# EAGLE library part TINY24/44/84 (library atmega-atxmega)
• High Performance, Low Power AVR® 8-bit Microcontroller • Advanced RISC Architecture – 120 Powerful Instructions – Most Single Clock Cycle Execution – 32 x 8 General Purpose Working Registers – Fully Static Operation • High Endurance, Non-volatile Memory Segments – 2K/4K/8K Bytes of In-System, Self-programmable Flash Program Memory • Endurance: 10,000 Write/Erase Cycles – 128/256/512 Bytes of In-System Programmable EEPROM • Endurance: 100,000 Write/Erase Cycles – 128/256/512 Bytes of Internal SRAM – Data Retention: 20 years at 85°C / 100 years at 25°C – Programming Lock for Self-programming Flash & EEPROM Data Security • Peripheral Features – One 8-bit and One 16-bit Timer/Counter with Two PWM Channels, Each – 10-bit ADC • 8 Single-ended Channels • 12 Differential ADC Channel Pairs with Programmable Gain (1x / 20x) – Programmable Watchdog Timer with Separate On-chip Oscillator – On-chip Analog Comparator – Universal Serial Interface • Special Microcontroller Features – debugWIRE On-chip Debug System – In-System Programmable via SPI Port – Internal and External Interrupt Sources • Pin Change Interrupt on 12 Pins – Low Power Idle, ADC Noise Reduction, Standby and Power-down Modes – Enhanced Power-on Reset Circuit – Programmable Brown-out Detection Circuit with Software Disable Function – Internal Calibrated Oscillator – On-chip Temperature Sensor • I/O and Packages – Available in 20-pin QFN/MLF/VQFN, 14-pin SOIC, 14-pin PDIP and 15-ball UFBGA – Twelve Programmable I/O Lines • Operating Voltage: – 1.8 – 5.5V • Speed Grade: – 0 – 4 MHz @ 1.8 – 5.5V – 0 – 10 MHz @ 2.7 – 5.5V – 0 – 20 MHz @ 4.5 – 5.5V • Industrial Temperature Range: -40°C to +85°C • Low Power Consumption – Active Mode: • 210 μA at 1.8V and 1 MHz – Idle Mode: • 33 μA at 1.8V and 1 MHz – Power-down Mode: • 0.1 μA at 1.8V and 25°C
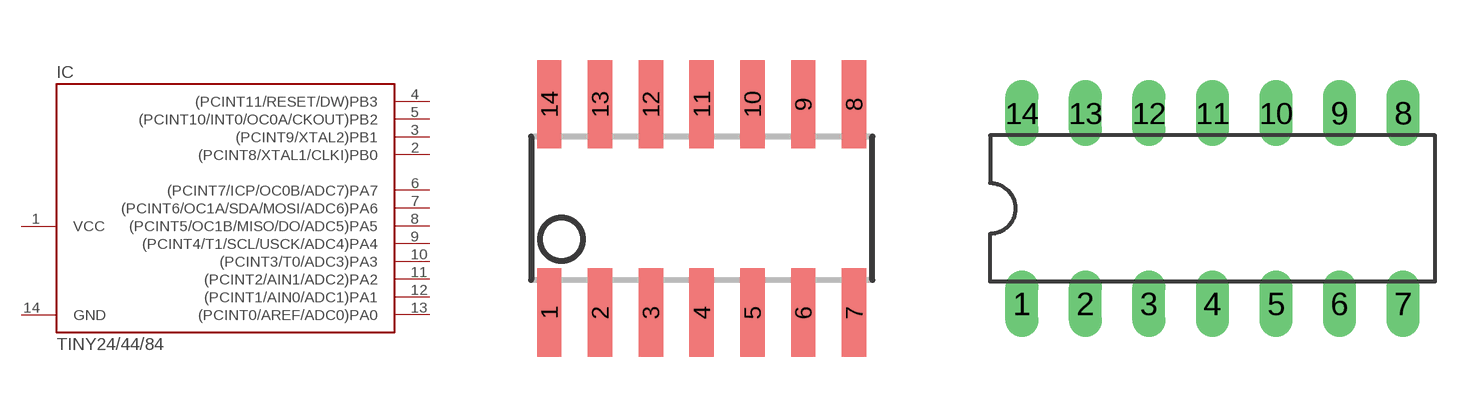
[diagram p144: symbol with the pads of SOIC14; footprints SOIC14, DIL14]

Designator prefix IC

## TINY24/44/84-SSU  [SOIC14]
1  VCC  pwr
2  (PCINT8/XTAL1/CLKI)PB0
3  (PCINT9/XTAL2)PB1
4  (PCINT11/RESET/DW)PB3
5  (PCINT10/INT0/OC0A/CKOUT)PB2
6  (PCINT7/ICP/OC0B/ADC7)PA7
7  (PCINT6/OC1A/SDA/MOSI/ADC6)PA6
8  (PCINT5/OC1B/MISO/DO/ADC5)PA5
9  (PCINT4/T1/SCL/USCK/ADC4)PA4
10  (PCINT3/T0/ADC3)PA3
11  (PCINT2/AIN1/ADC2)PA2
12  (PCINT1/AIN0/ADC1)PA1
13  (PCINT0/AREF/ADC0)PA0
14  GND  pwr

## TINY24/44/84-PU  [DIL14]
Pads as for SOIC14

## TINY24/44/84-MU  [QFN/MLF20]
1  (PCINT4/T1/SCL/USCK/ADC4)PA4
2  (PCINT3/T0/ADC3)PA3
3  (PCINT2/AIN1/ADC2)PA2
4  (PCINT1/AIN0/ADC1)PA1
5  (PCINT0/AREF/ADC0)PA0
8  GND  pwr
9  VCC  pwr
11  (PCINT8/XTAL1/CLKI)PB0
12  (PCINT9/XTAL2)PB1
13  (PCINT11/RESET/DW)PB3
14  (PCINT10/INT0/OC0A/CKOUT)PB2
15  (PCINT7/ICP/OC0B/ADC7)PA7
16  (PCINT6/OC1A/SDA/MOSI/ADC6)PA6
20  (PCINT5/OC1B/MISO/DO/ADC5)PA5

## Footprint SOIC14 (pad centres in mm)
Small Outline Package
smd 0.61 x 2.21: 1 -3.81,-2.603; 2 -2.54,-2.603; 3 -1.27,-2.603; 4 0,-2.603; 5 1.27,-2.603; 6 2.54,-2.603; 7 3.81,-2.603; 8 3.81,2.603; 9 2.54,2.603; 10 1.27,2.603; 11 0,2.603; 12 -1.27,2.603; 13 -2.54,2.603; 14 -3.81,2.603

## Footprint DIL14 (pad centres in mm)
Dual In Line Package
drill 0.813 long: 1 -7.62,-3.81; 2 -5.08,-3.81; 3 -2.54,-3.81; 4 0,-3.81; 5 2.54,-3.81; 6 5.08,-3.81; 7 7.62,-3.81; 8 7.62,3.81; 9 5.08,3.81; 10 2.54,3.81; 11 0,3.81; 12 -2.54,3.81; 13 -5.08,3.81; 14 -7.62,3.81

## Footprint QFN/MLF20 (pad centres in mm)
HP-VFQFP-N20 Micro Lead Frame package (MLF)
smd 0.9 x 0.35: 1 -2.25,1.3; 2 -2.25,0.65; 3 -2.25,0; 4 -2.25,-0.65; 5 -2.25,-1.3; 11 2.25,-1.3; 12 2.25,-0.65; 13 2.25,0; 14 2.25,0.65; 15 2.25,1.3
smd 0.35 x 0.9: 6 -1.3,-2.25; 7 -0.65,-2.25; 8 0,-2.25; 9 0.65,-2.25; 10 1.3,-2.25; 16 1.3,2.25; 17 0.65,2.25; 18 0,2.25; 19 -0.65,2.25; 20 -1.3,2.25